# Altium schematic symbol library RV.SchLib: 1 symbol
Pins are listed as number, name and electrical type; pins without a type are passive.

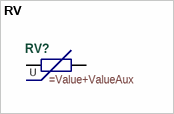
[diagram p0: symbol RV]

## RV
designator RV?
=Description
pins: 1, 2
text: U